# Altium schematic symbol library RJHSE-5384.SchLib: 1 symbol
Pins are listed as number, name and electrical type; pins without a type are passive.

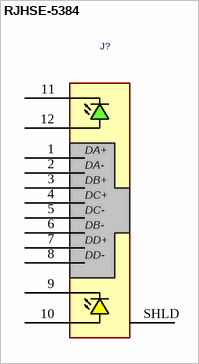
[diagram p0: symbol RJHSE-5384]

## RJHSE-5384
designator J?
RJ45, 8P+LED, SHIELDED, RightAngle, TabUP, Transformerless
pins: 1 DA+, 2 DA-, 3 DB+, 4 DC+, 5 DC-, 6 DB-, 7 DD+, 8 DD-, 9 YLED+, 10 YLED-, 11 GLED+, 12 GLED-, SHLD